# EAGLE library part ADS7883 (library jack_IC)
12-BIT, 3-MSPS, MICROPOWER, MINIATURE SAR ADC http://www.ti.com/lit/ds/symlink/ads7883.pdf
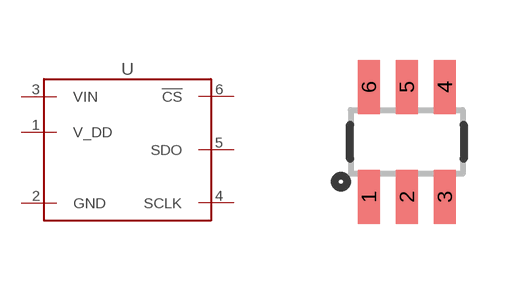
[diagram p16: symbol with the pads of SOT23-6; footprint SOT23-6]

Designator prefix U

## ADS7883  [SOT23-6]
1  V_DD
2  GND
3  VIN
4  SCLK
5  SDO
6  !CS

## Footprint SOT23-6 (pad centres in mm)
smd 0.55 x 1.35: 1 -0.95,-1.375; 2 0,-1.375; 3 0.95,-1.375; 4 0.95,1.375; 5 0,1.375; 6 -0.95,1.375